# Altium footprint library PCB - RESISTOR - CHIP - RES 0603_1608 CONFIG.PCBLIB: 1 footprints
Each footprint in its own frame and in the unit in brackets; x right, y up, seen from the top. Pads: shape width x height; smd on the part's side, far side on the other; paste and mask are expansions set on the pad; w line width, h text height; cw(c..) or ccw(c..) is an arc to the next point about the centre after c.
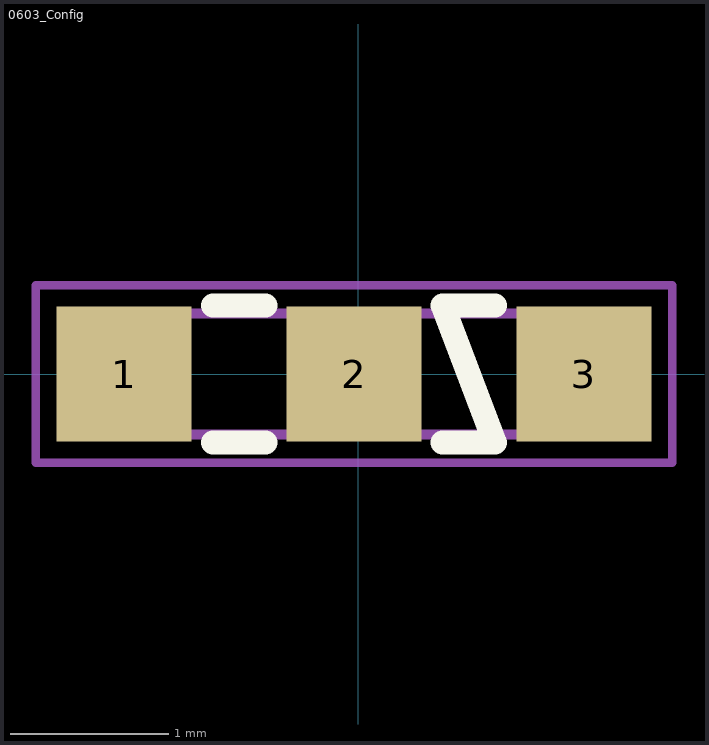
[diagram p0: the footprint, top view; thin cyan lines are the x and y axes]

## 0603_Config [mm] "0603 3-Pin Config Footprint"
height 1
pads (3):
  rect 0.85x0.85 smd: 1(-1.475,0) 2(-0.025,0) 3(1.425,0)
Top Overlay:
  lines w0.152: -0.914,-0.432 -0.584,-0.432 ; -0.914,0.432 -0.584,0.432 ; 0.533,-0.432 0.864,-0.432 0.533,0.432 0.864,0.432
Top Assembly:
  lines w0.064: -1.778,-0.381 -1.778,0.381 1.778,0.381 1.778,-0.381 -1.778,-0.381
Top Courtyard:
  lines w0.054: -2.032,-0.559 -2.032,0.559 1.981,0.559 1.981,-0.559 -2.032,-0.559
Top Designator:
  text ".Designator" at -2.032,1.905 h1
Top Value (Mech13):
  text ".Comment" at -2.032,1.016 h1
3D body "User Library-RESC1608X___.STEP": height 0.3, standoff 0, extent -1.55,-0.4 0.05,0.4